# Altium schematic symbol library transistors.SchLib: 15 symbols
Pins are listed as number, name and electrical type; pins without a type are passive.

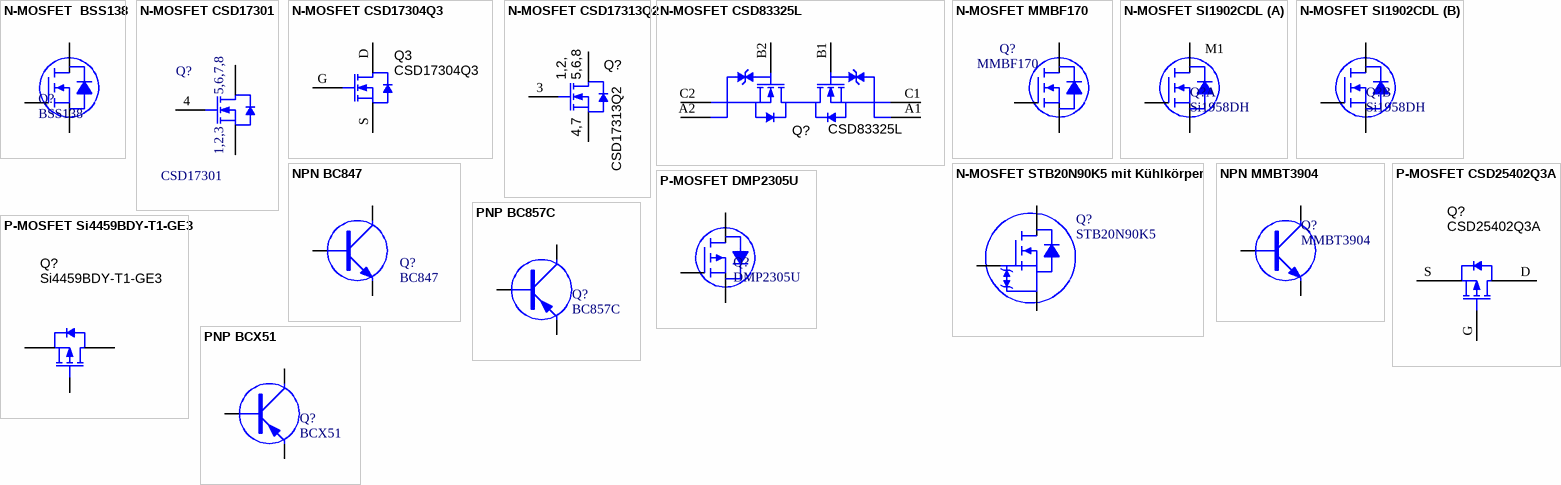
[diagram p0: symbols N-MOSFET  BSS138 to PNP BCX51]

## N-MOSFET  BSS138
designator Q?, comment BSS138
N-MOSFET 0.22A 50V 3.5Ω SOT-23; Manufacturer: On Semiconductor; Manufacturer Part Number: BSS138LT1G; Created by: Nils Minor; Value: BSS138
footprint SOT23-GSD
pins: D, G, S

## N-MOSFET CSD17301
designator Q?, comment CSD17301
N-MOSFET 100A 30V 3mΩ TDSON-8; Manufacturer: Texas Instruments; Manufacturer Part Number: CSD17301Q5A; Created by: Nils Minor
footprint PG-TDSON-8
pins: 1 S, 2 S, 3 S, 4 G, 5 D, 6 D, 7 D, 8 D, 9 D
text: 5,6,7,8; 1,2,3

## N-MOSFET CSD17304Q3
designator Q3, comment CSD17304Q3
MOSFET, N-CH, 30 V, 56 A, DQG0008A (VSON-CLIP-8); Manufacturer: Texas Instruments; Created by: Nils Minor; Manufacturer Part Number: CSD17304Q3
footprint DQG0008A
pins: D, G, S

## N-MOSFET CSD17313Q2
designator Q?, comment CSD17313Q2
N-MOSFET 5 A 30V 24mΩ DQK0006C; Manufacturer: Texas Instruments; Created by: Nils Minor; Manufacturer Part Number: CSD17313Q2; Value: CSD17313Q2
footprint DQK0006C (WSON)
pins: 1 D, 2 D, 3 G, 4 S, 5 D, 6 D, 7 S, 8 D
text: 1,2,; 5,6,8; 4,7

## N-MOSFET CSD83325L
designator Q?, comment CSD83325L
N-MOSFET 8A 12V 11.9mΩ YJE0006A; Manufacturer: Texas Instruments; Manufacturer Part Number: CSD83325LT; Created by: Nils Minor
footprint YJE0006A
pins: A1 S1, A2 S2, B1 G1, B2 G2, C1 S1, C2 S2

## N-MOSFET MMBF170
designator Q?, comment MMBF170
N-MOSFET 500mA 60V 5Ω SOT-23; Manufacturer: On Semiconductor; Manufacturer Part Number: MMBF170LT1G; Created by: Nils Minor; Value: MMBF170
footprint SOT23-GSD
pins: D, G, S

## N-MOSFET SI1902CDL
designator Q?, comment Si1958DH
N-MOSFET Dual 1.1A 20V 235mΩ SOT-363; Manufacturer: Vishay; Manufacturer Part Number: SI1902CDL-T1-GE3; Created by: Nils Minor
footprint SOT363
part A pins: 1, 2, 6
part B pins: 3, 4, 5
part A text: M1

## N-MOSFET STB20N90K5 mit Kühlkörper
designator Q?, comment STB20N90K5
N-MOSFET 20A 900V 210mΩ D2PAK mit Kühlkörper; Manufacturer: STMicroelectronics; Created by: Nils Minor; Manufacturer Part Number: STB20N90K5; Value: STB20N90K5
footprint D2PAK-COOLING - GSD
pins: D, G, S

## NPN BC847
designator Q?, comment BC847
NPN Transistor 100mA 45V SOT-23; Manufacturer: Nexperia; Manufacturer Part Number: BC847C,215; Created by: Nils Minor; Value: BC847
footprint SOT23-BCE
pins: B, C, E

## NPN MMBT3904
designator Q?, comment MMBT3904
NPN Transistor 200mA 60V SOT-23; Manufacturer: Fairchild Semicunductor; Created by: Nils Minor; Manufacturer Part Number: MMBT3904; Value: MMBT3904
footprint SOT23-BCE
pins: B, C, E

## P-MOSFET CSD25402Q3A
designator Q?, comment CSD25402Q3A
P-MOSFET -15A -20V 8.9mΩ nextFET; Manufacturer: Texas Instruments; Created by: Nils Minor; Manufacturer Part Number: CSD25402Q3A
footprint TRANS_NexFET_Q3A
pins: D, G, S

## P-MOSFET DMP2305U
designator Q?, comment DMP2305U
P-MOSFET -4.2A -20V 60mΩ SOT-23; Manufacturer: Diodes; Manufacturer Part Number: DMP2305U-7; Created by: Nils Minor; Value: DMP2305U
footprint SOT23-GSD
pins: D, G, S

## P-MOSFET Si4459BDY-T1-GE3
designator Q?, comment Si4459BDY-T1-GE3
P-MOSFET -27.8A -30V 4.6mΩ; Manufacturer: Vishay; Created by: Nils Minor; Manufacturer Part Number: Si4459BDY-T1-GE3
footprint SO8
pins: 1 S, 2 S, 3 S, 4 G, 5 D, 6 D, 7 D, 8 D

## PNP BC857C
designator Q?, comment BC857C
PNP Transistor 100mA 50V SOT-23; Manufacturer: Nexperia; Manufacturer Part Number: BC857C,215; Created by: Nils Minor; Value: BC857C
footprint SOT23-BCE
pins: B, C, E

## PNP BCX51
designator Q?, comment BCX51
PNP Transistor -2A -45V SOT-89; Manufacturer: Nexperia; Manufacturer Part Number: BCX51,115; Created by: Nils Minor; Value: BCX51
footprint SOT89
pins: 1 E, 2 C, 3 B